# Altium footprint library DIP.PcbLib: 2 footprints
Each footprint in its own frame and in the unit in brackets; x right, y up, seen from the top. Pads: shape width x height; smd on the part's side, far side on the other; paste and mask are expansions set on the pad; w line width, h text height; cw(c..) or ccw(c..) is an arc to the next point about the centre after c.
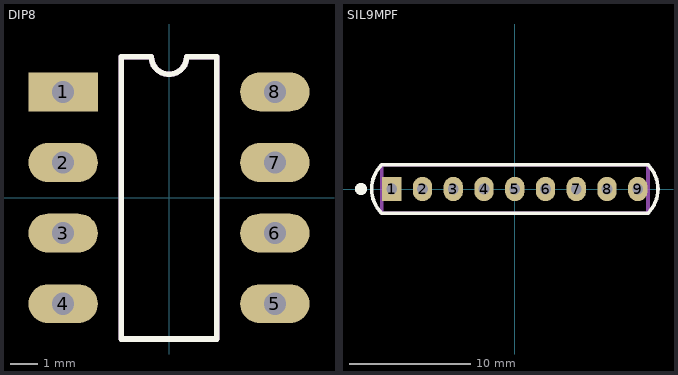
[diagram p0: the footprints below, top view; thin cyan lines are the x and y axes]

## DIP8 [mm]
pads (8):
  rect 2.5x1.4 hole 0.8: 1(-3.81,3.81)
  oval 2.5x1.4 hole 0.8: 2(-3.81,1.27) 3(-3.81,-1.27) 4(-3.81,-3.81) 5(3.81,-3.81) 6(3.81,-1.27) 7(3.81,1.27) 8(3.81,3.81)
Top Overlay:
  lines w0.2: -1.725,-5.08 -1.725,5.08 -0.635,5.08 ccw(c0,5.08) 0.635,5.08 1.725,5.08 1.725,-5.08 -1.725,-5.08
Mechanical 13:
  lines w0.2: -1.725,-5.08 -1.725,5.08 -0.635,5.08 ccw(c0,5.08) 0.635,5.08 1.725,5.08 1.725,-5.08 -1.725,-5.08
  text ".Designator" at -0.762,2.159 h2.5
3D body: height 3.5, standoff -1.81, extent -3.978,-4.75 3.937,4.75

## SIL9MPF [mm] "plastic single in-line medium power package with fin; 9 leads (SOT110-1)"
pads (9):
  rect 1.6x2 hole 0.9: 1(-10.16,0)
  oval 1.6x2 hole 0.9: 2(-7.62,0) 3(-5.08,0) 4(-2.54,0) 5(0,0) 6(2.54,0) 7(5.08,0) 8(7.62,0) 9(10.16,0)
Top Overlay:
  circle w0.5: c-12.7,0 r0.25
  lines w0.3: -11,-2 cw(c-9,0) -11,2 11,2 cw(c9,0) 11,-2 -11,-2
Mechanical 13:
  lines w0.3: -11,-2 11,-2 11,2 -11,2 -11,-2
  text ".Designator" at -5.334,2.159 h2.5